# EAGLE library part BUCK1.6A (library buck_1.6)
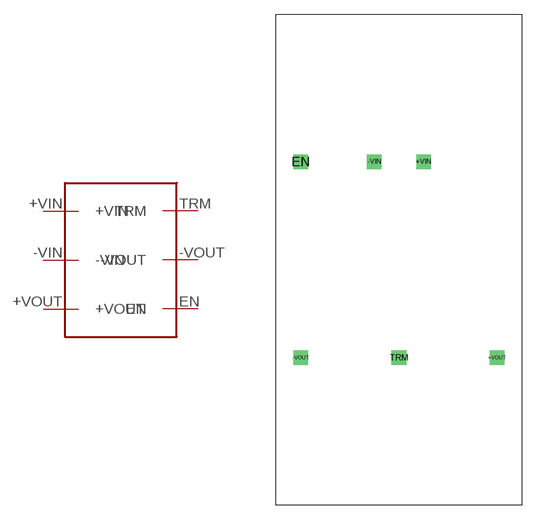
[diagram p0: symbol with the pads of BUCK1.6A; footprint BUCK1.6A]

Designator prefix -

## BUCK1.6A  [BUCK1.6A]
+VIN  +VIN
+VOUT  +VOUT
-VIN  -VIN
-VOUT  -VOUT
EN  EN
TRM  TRM

## Footprint BUCK1.6A (pad centres in mm)
drill 1 square: +VIN 2.54,10.16; +VOUT 10.16,-10.16; -VIN -2.54,10.16; -VOUT -10.16,-10.16; EN -10.16,10.16; TRM 0,-10.16